# EAGLE library part LTC-4027JR (library LTC-4727JR)
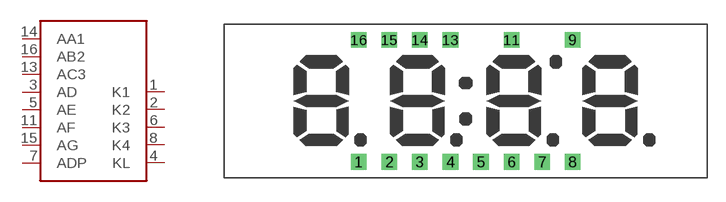
[diagram p0: symbol with the pads of LTC-4727JR; footprint LTC-4727JR]

Designator prefix -

## LTC-4027JRLTC-4027JR  [LTC-4727JR]
1  K1
2  K2
3  AD
4  KL
5  AE
6  K3
7  ADP
8  K4
11  AF
13  AC3
14  AA1
15  AG
16  AB2

## Footprint LTC-4727JR (pad centres in mm)
This is the 7-Segment 4-Digit Common Cathode clock-face LED display
drill 0.8 square: 1 -8.89,-5.08; 2 -6.35,-5.08; 3 -3.81,-5.08; 4 -1.27,-5.08; 5 1.27,-5.08; 6 3.81,-5.08; 7 6.35,-5.08; 8 8.89,-5.08; 9 8.89,5.08; 11 3.81,5.08; 13 -1.27,5.08; 14 -3.81,5.08; 15 -6.35,5.08; 16 -8.89,5.08